# EAGLE library part STM32FXXXR (library st)
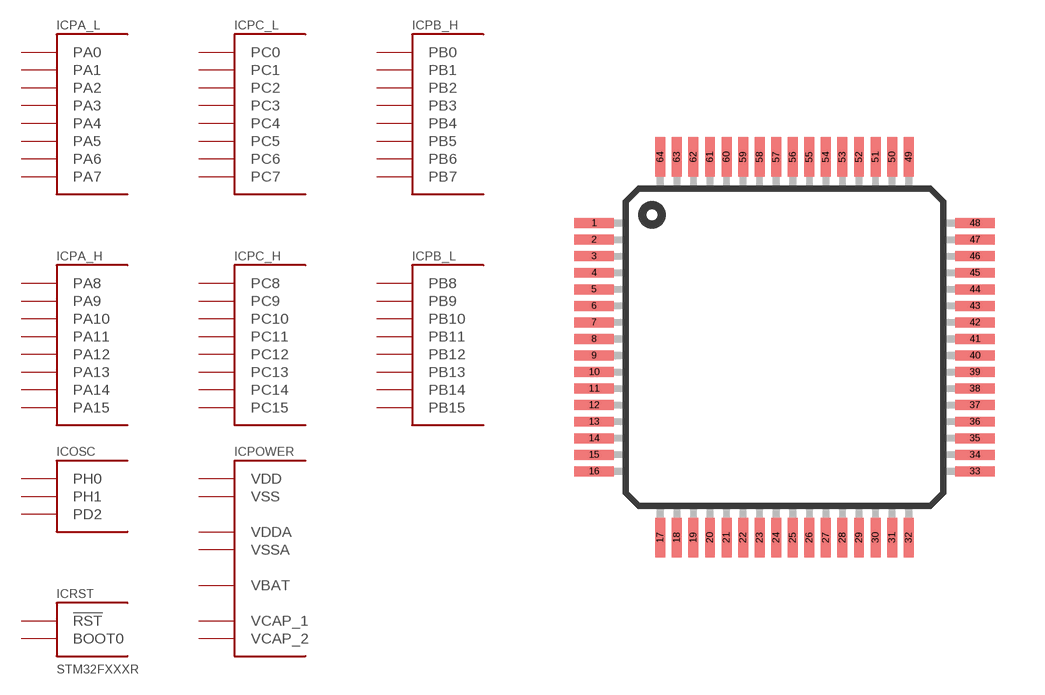
[diagram p2: symbol with the pads of LQFP64; footprint LQFP64]

Designator prefix IC; gates PA_L=PORT_A_L PB_L=PORT_B_H PB_H=PORT_B_L PC_H=PORT_C_H PC_L=PORT_C_L OSC=PH01_PD2 RST=BOOT_RST PA_H=PORT_A_H POWER=POWER_64

## STM32FXXXRR  [LQFP64]
1  POWER:VBAT  pas
2  PC_H:PC13
3  PC_H:PC14
4  PC_H:PC15
5  OSC:PH0
6  OSC:PH1
7  RST:!RST  in
8  PC_L:PC0
9  PC_L:PC1
10  PC_L:PC2
11  PC_L:PC3
12  POWER:VSSA  pas
13  POWER:VDDA  pas
14  PA_L:PA0
15  PA_L:PA1
16  PA_L:PA2
17  PA_L:PA3
18  POWER:VSS  pas
19  POWER:VDD  pas
20  PA_L:PA4
21  PA_L:PA5
22  PA_L:PA6
23  PA_L:PA7
24  PC_L:PC4
25  PC_L:PC5
26  PB_H:PB0
27  PB_H:PB1
28  PB_H:PB2
29  PB_L:PB10
30  PB_L:PB11
31  POWER:VCAP_1  pas
32  POWER:VDD  pas
33  PB_L:PB12
34  PB_L:PB13
35  PB_L:PB14
36  PB_L:PB15
37  PC_L:PC6
38  PC_L:PC7
39  PC_H:PC8
40  PC_H:PC9
41  PA_H:PA8
42  PA_H:PA9
43  PA_H:PA10
44  PA_H:PA11
45  PA_H:PA12
46  PA_H:PA13
47  POWER:VCAP_2  pas
48  POWER:VDD  pas
49  PA_H:PA14
50  PA_H:PA15
51  PC_H:PC10
52  PC_H:PC11
53  PC_H:PC12
54  OSC:PD2
55  PB_H:PB3
56  PB_H:PB4
57  PB_H:PB5
58  PB_H:PB6
59  PB_H:PB7
60  RST:BOOT0  in
61  PB_L:PB8
62  PB_L:PB9
63  POWER:VSS  pas
64  POWER:VDD  pas

## Footprint LQFP64 (pad centres in mm)
smd 1.2 x 0.3: 1 -5.75,3.75; 2 -5.75,3.25; 3 -5.75,2.75; 4 -5.75,2.25; 5 -5.75,1.75; 6 -5.75,1.25; 7 -5.75,0.75; 8 -5.75,0.25; 9 -5.75,-0.25; 10 -5.75,-0.75; 11 -5.75,-1.25; 12 -5.75,-1.75; 13 -5.75,-2.25; 14 -5.75,-2.75; 15 -5.75,-3.25; 16 -5.75,-3.75; 33 5.75,-3.75; 34 5.75,-3.25; 35 5.75,-2.75; 36 5.75,-2.25; 37 5.75,-1.75; 38 5.75,-1.25; 39 5.75,-0.75; 40 5.75,-0.25; 41 5.75,0.25; 42 5.75,0.75; 43 5.75,1.25; 44 5.75,1.75; 45 5.75,2.25; 46 5.75,2.75; 47 5.75,3.25; 48 5.75,3.75
smd 0.3 x 1.2: 17 -3.75,-5.75; 18 -3.25,-5.75; 19 -2.75,-5.75; 20 -2.25,-5.75; 21 -1.75,-5.75; 22 -1.25,-5.75; 23 -0.75,-5.75; 24 -0.25,-5.75; 25 0.25,-5.75; 26 0.75,-5.75; 27 1.25,-5.75; 28 1.75,-5.75; 29 2.25,-5.75; 30 2.75,-5.75; 31 3.25,-5.75; 32 3.75,-5.75; 49 3.75,5.75; 50 3.25,5.75; 51 2.75,5.75; 52 2.25,5.75; 53 1.75,5.75; 54 1.25,5.75; 55 0.75,5.75; 56 0.25,5.75; 57 -0.25,5.75; 58 -0.75,5.75; 59 -1.25,5.75; 60 -1.75,5.75; 61 -2.25,5.75; 62 -2.75,5.75; 63 -3.25,5.75; 64 -3.75,5.75